# Altium footprint library GC9A01-LCD.PcbLib: 4 footprints
Each footprint in its own frame and in the unit in brackets; x right, y up, seen from the top. Pads: shape width x height; smd on the part's side, far side on the other; paste and mask are expansions set on the pad; w line width, h text height; cw(c..) or ccw(c..) is an arc to the next point about the centre after c.
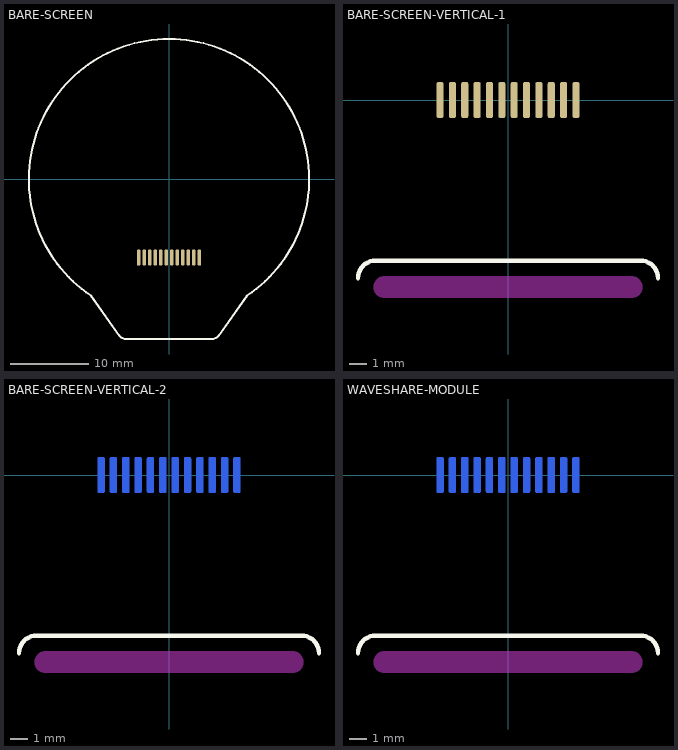
[diagram p0: the footprints below, top view; thin cyan lines are the x and y axes]

## BARE-SCREEN [mm]
pads (12):
  rrect50% 0.4x2.032 smd: 1(3.85,-9.951) 2(3.15,-9.951) 3(2.45,-9.951) 4(1.75,-9.951) 5(1.05,-9.951) 6(0.35,-9.951) 7(-0.35,-9.951) 8(-1.05,-9.951) 9(-1.75,-9.951) 10(-2.45,-9.951) 11(-3.15,-9.951) 12(-3.85,-9.951)
Top Overlay:
  lines w0.254: -9.911,-14.786 cw(c0,0) 9.911,-14.786 6.305,-19.87 cw(c5.473,-19.281) 5.473,-20.3 -5.473,-20.3 cw(c-5.473,-19.281) -6.305,-19.87 -9.911,-14.786
3D body "scr.step": height 4.55, standoff 3, extent -17.796,-20.3 17.796,17.8

## BARE-SCREEN-VERTICAL-1 [mm]
pads (12):
  rrect50% 0.4x2.032 smd: 1(3.85,0) 2(3.15,0) 3(2.45,0) 4(1.75,0) 5(1.05,0) 6(0.35,0) 7(-0.35,0) 8(-1.05,0) 9(-1.75,0) 10(-2.45,0) 11(-3.15,0) 12(-3.85,0)
Top Overlay:
  lines w0.254: -8.5,-10.1 cw(c-7.5,-10.1) -7.5,-9.1 7.5,-9.1 cw(c7.5,-10.1) 8.5,-10.1
Bottom Overlay:
  lines w0.254: -5.7,-2.3 -5.7,-0.3 cw(c-5.4,-0.3) -5.4,0 -4.445,0 ; 4.445,0 5.4,0 cw(c5.4,-0.3) 5.7,-0.3 5.7,-2.3
Keep-Out Layer:
  board cut-out: -7,-11.1 7,-11.1 7.099,-11.1 7.283,-11.024 7.424,-10.883 7.5,-10.699 7.5,-10.501 7.424,-10.317 7.283,-10.176 7.099,-10.1 7,-10.1 -7,-10.1 -7.099,-10.1 -7.283,-10.176 -7.424,-10.317 -7.5,-10.501 -7.5,-10.699 -7.424,-10.883 -7.283,-11.024 -7.099,-11.1
Keep-Out Layer:
  lines w0.254: -7,-11.1 cw(c-7,-10.6) -7,-10.1 7,-10.1 cw(c7,-10.6) 7,-11.1 -7,-11.1
3D body "scr.step": height 38.8, standoff 0.7, extent -17.796,-11.85 17.796,-10.3

## BARE-SCREEN-VERTICAL-2 [mm]
pads (12):
  rrect50% 0.4x2.032 smd far side: 1(3.85,0) 2(3.15,0) 3(2.45,0) 4(1.75,0) 5(1.05,0) 6(0.35,0) 7(-0.35,0) 8(-1.05,0) 9(-1.75,0) 10(-2.45,0) 11(-3.15,0) 12(-3.85,0)
Top Overlay:
  lines w0.254: -8.5,-10.1 cw(c-7.5,-10.1) -7.5,-9.1 7.5,-9.1 cw(c7.5,-10.1) 8.5,-10.1
Bottom Overlay:
  lines w0.254: -5.7,-2.3 -5.7,-0.3 cw(c-5.4,-0.3) -5.4,0 -4.445,0 ; 4.445,0 5.4,0 cw(c5.4,-0.3) 5.7,-0.3 5.7,-2.3
Keep-Out Layer:
  board cut-out: -7,-11.1 7,-11.1 7.099,-11.1 7.283,-11.024 7.424,-10.883 7.5,-10.699 7.5,-10.501 7.424,-10.317 7.283,-10.176 7.099,-10.1 7,-10.1 -7,-10.1 -7.099,-10.1 -7.283,-10.176 -7.424,-10.317 -7.5,-10.501 -7.5,-10.699 -7.424,-10.883 -7.283,-11.024 -7.099,-11.1
Keep-Out Layer:
  lines w0.254: -7,-11.1 cw(c-7,-10.6) -7,-10.1 7,-10.1 cw(c7,-10.6) 7,-11.1 -7,-11.1
3D body "scr.step": height 38.8, standoff 0.7, extent -17.796,-11.85 17.796,-10.3

## WAVESHARE-MODULE [mm]
pads (12):
  rrect50% 0.4x2.032 smd far side: 1(3.85,0) 2(3.15,0) 3(2.45,0) 4(1.75,0) 5(1.05,0) 6(0.35,0) 7(-0.35,0) 8(-1.05,0) 9(-1.75,0) 10(-2.45,0) 11(-3.15,0) 12(-3.85,0)
Top Overlay:
  lines w0.254: -8.5,-10.1 cw(c-7.5,-10.1) -7.5,-9.1 7.5,-9.1 cw(c7.5,-10.1) 8.5,-10.1
Bottom Overlay:
  lines w0.254: -5.7,-2.3 -5.7,-0.3 cw(c-5.4,-0.3) -5.4,0 -4.445,0 ; 4.445,0 5.4,0 cw(c5.4,-0.3) 5.7,-0.3 5.7,-2.3
Keep-Out Layer:
  board cut-out: -7,-11.1 7,-11.1 7.099,-11.1 7.283,-11.024 7.424,-10.883 7.5,-10.699 7.5,-10.501 7.424,-10.317 7.283,-10.176 7.099,-10.1 7,-10.1 -7,-10.1 -7.099,-10.1 -7.283,-10.176 -7.424,-10.317 -7.5,-10.501 -7.5,-10.699 -7.424,-10.883 -7.283,-11.024 -7.099,-11.1
Keep-Out Layer:
  lines w0.254: -7,-11.1 cw(c-7,-10.6) -7,-10.1 7,-10.1 cw(c7,-10.6) 7,-11.1 -7,-11.1
3D body "Waveshare-GC9A01-LCD.step": height 11.06, standoff 2.12, extent -18.766,-20.599 18.766,18.771